# Altium footprint library HeatSink_PCB.PcbLib: 1 footprints
Each footprint in its own frame and in the unit in brackets; x right, y up, seen from the top. Pads: shape width x height; smd on the part's side, far side on the other; paste and mask are expansions set on the pad; w line width, h text height; cw(c..) or ccw(c..) is an arc to the next point about the centre after c.
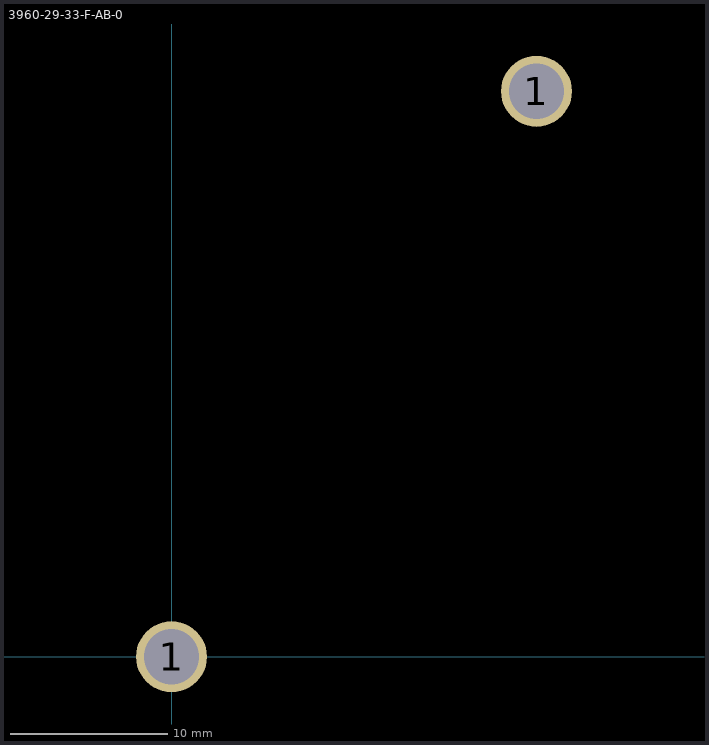
[diagram p0: the footprint, top view; thin cyan lines are the x and y axes]

## 3960-29-33-F-AB-0 [mm]
pads (2):
  round 4.5 hole 3.5: 1(0,0) 1(23.14,35.85)
3D body "29x29.960-29-33-F-AB-0.STEP": height 36.5, standoff 0.25, extent -3.45,-3.16 26.55,39.51